# EAGLE library part STM8S003K3 (library IC-Microcontrollers)
Value line, 16-MHz STM8S 8-bit MCU, 8-Kbyte Flash memory, 128-byte data EEPROM, 10-bit ADC, 3 timers, UART, SPI, I²C
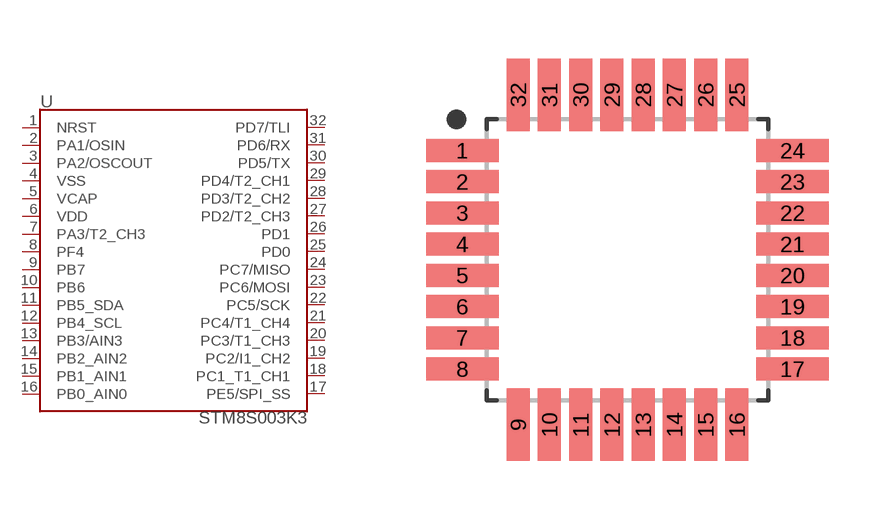
[diagram p0: symbol with the pads of QFP80P900X900X160-32M; footprint QFP80P900X900X160-32M]

Designator prefix U

## STM8S003K3LQFP32 (DATASHEET: value; DIGIKEY-PART-NUMBER: value; LINK: value; MANUFACTURER: value; MPN: value; TECHNOLOGY: value; UNIT-PRICE: value)  [QFP80P900X900X160-32M]
1  NRST
2  PA1/OSIN
3  PA2/OSCOUT
4  VSS  sup
5  VCAP  sup
6  VDD  sup
7  PA3/T2_CH3
8  PF4
9  PB7
10  PB6
11  PB5_SDA
12  PB4_SCL
13  PB3/AIN3
14  PB2_AIN2
15  PB1_AIN1
16  PB0_AIN0
17  PE5/SPI_SS
18  PC1_T1_CH1
19  PC2/I1_CH2
20  PC3/T1_CH3
21  PC4/T1_CH4
22  PC5/SCK
23  PC6/MOSI
24  PC7/MISO
25  PD0
26  PD1
27  PD2/T2_CH3
28  PD3/T2_CH2
29  PD4/T2_CH1
30  PD5/TX
31  PD6/RX
32  PD7/TLI

## Footprint QFP80P900X900X160-32M (pad centres in mm)
32-QFP, 0.80 mm pitch, 9.00 mm span, 7.00 X 7.00 X 1.60 mm body 32-pin QFP package with 0.80 mm pitch, 9.00 mm lead span1 X 9.00 mm lead span2 with body size 7.00 X 7.00 X 1.60 mm
smd 1.859 x 0.587: 1 -4.228,2.8; 2 -4.228,2; 3 -4.228,1.2; 4 -4.228,0.4; 5 -4.228,-0.4; 6 -4.228,-1.2; 7 -4.228,-2; 8 -4.228,-2.8; 17 4.228,-2.8; 18 4.228,-2; 19 4.228,-1.2; 20 4.228,-0.4; 21 4.228,0.4; 22 4.228,1.2; 23 4.228,2; 24 4.228,2.8
smd 0.587 x 1.859: 9 -2.8,-4.228; 10 -2,-4.228; 11 -1.2,-4.228; 12 -0.4,-4.228; 13 0.4,-4.228; 14 1.2,-4.228; 15 2,-4.228; 16 2.8,-4.228; 25 2.8,4.228; 26 2,4.228; 27 1.2,4.228; 28 0.4,4.228; 29 -0.4,4.228; 30 -1.2,4.228; 31 -2,4.228; 32 -2.8,4.228